# EAGLE library part MUX-2X4 (library microbuilder)
2x4 Channel Analog Multiplexer/Demultiplexer [Part No.] Texas Instruments CD74HC4052M Digikey: 296-9218-5-ND
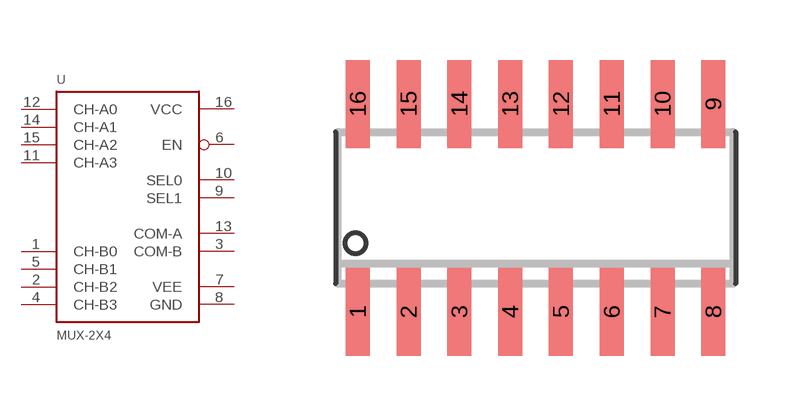
[diagram p18: symbol with the pads of SOIC16; footprint SOIC16]

Designator prefix U

## MUX-2X4  [SOIC16]
1  CH-B0
2  CH-B2
3  COM-B
4  CH-B3
5  CH-B1
6  EN
7  VEE
8  GND
9  SEL1
10  SEL0
11  CH-A3
12  CH-A0
13  COM-A
14  CH-A1
15  CH-A2
16  VCC

## Footprint SOIC16 (pad centres in mm)
SMALL OUTLINE INTEGRATED CIRCUIT
smd 0.6 x 2.2: 1 -4.445,-2.6; 2 -3.175,-2.6; 3 -1.905,-2.6; 4 -0.635,-2.6; 5 0.635,-2.6; 6 1.905,-2.6; 7 3.175,-2.6; 8 4.445,-2.6; 9 4.445,2.6; 10 3.175,2.6; 11 1.905,2.6; 12 0.635,2.6; 13 -0.635,2.6; 14 -1.905,2.6; 15 -3.175,2.6; 16 -4.445,2.6